# Altium integrated library Diodes - TVS.IntLib: 5379 symbols (part 44 of 122)
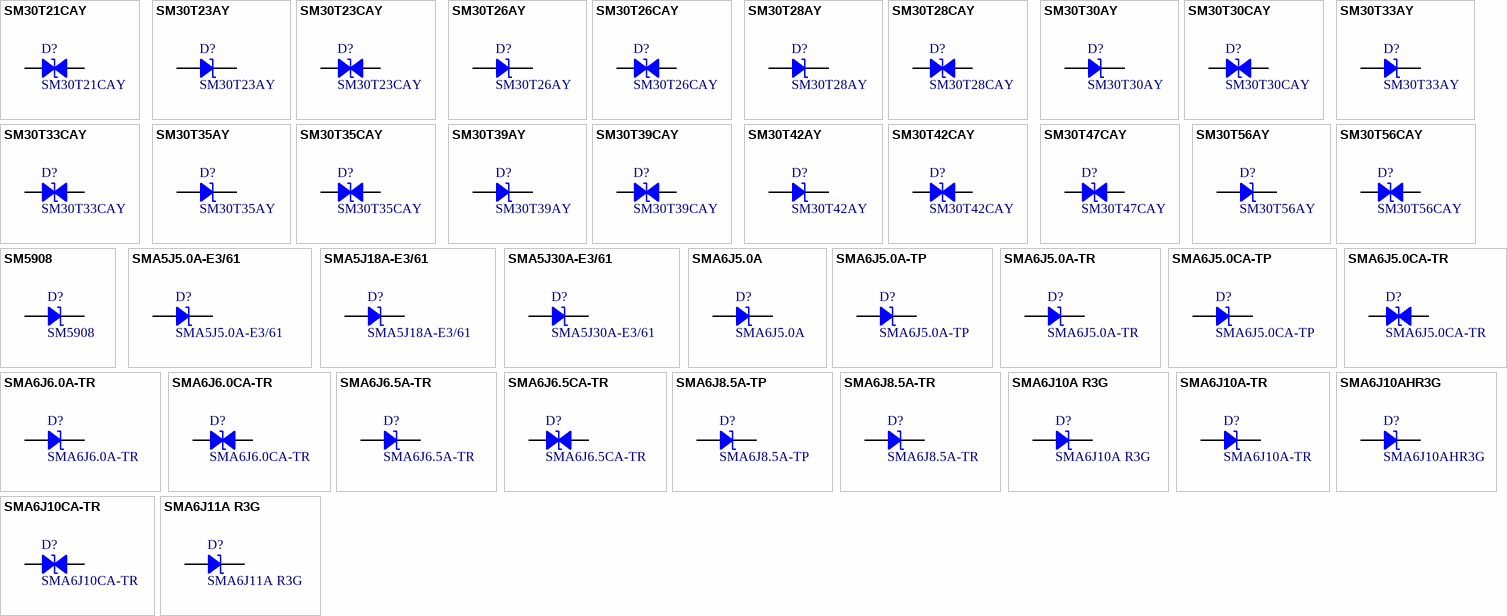
[diagram p177: symbols SM30T21CAY to SMA6J11A R3G]

## SM30T39AY
designator D?
TVS DIODE 33V 53.3V SMC; Manufacturer: STMicroelectronics; Current - Peak Pulse (10/1000µs): 56.3A; Power Line Protection: No; Power - Peak Pulse: 3000W (3kW); Type: Zener; Unidirectional Channels: 1; Voltage - Breakdown (Min): 36.7V; Part Number: SM30T39AY; Applications: Automotive; ComponentLink1Description: Datasheet; ComponentLink1URL: http://www.st.com/content/ccc/resource/technical/document/datasheet/90/0c/ab/be/9d/d1/49/bd/DM00035136.pdf/files/DM00035136.pdf/jcr:content/translations/en.DM00035136.pdf; ComponentLink2Description: DigiKey Link; ComponentLink2URL: http://digikey.com/product-detail/en/stmicroelectronics/SM30T39AY/497-12191-1-ND/2826664; LastUpdated: 9/2/2020 1:19:58 AM; Lifecycle Status: Active; Minimum Order: 1; Mounting Type: Surface Mount; Operating Temperature: -55°C ~ 175°C (TJ); Package / Case: DO-214AB, SMC; Packaging: TapeAndReel; PartId: 6228; Part Status: Active; Price: 0.85; Series: Automotive, AEC-Q101, SM30TY, TRANSIL™; Supplier 1: DigiKey; Supplier Part Number 1: 497-12191-1-ND; Supplier Device Package: SMC (DO-214AB); Voltage - Clamping (Max) @ Ipp: 53.3V; Voltage - Reverse Standoff (Typ): 33V
footprint DO214AB SMC
pins: 1, 2

## SM30T39CAY
designator D?
TVS DIODE 33V 53.3V SMC; Manufacturer: STMicroelectronics; Bidirectional Channels: 1; Current - Peak Pulse (10/1000µs): 56.3A; Power Line Protection: No; Power - Peak Pulse: 3000W (3kW); Type: Zener; Voltage - Breakdown (Min): 36.7V; Part Number: SM30T39CAY; Applications: Automotive; ComponentLink1Description: Datasheet; ComponentLink1URL: http://www.st.com/content/ccc/resource/technical/document/datasheet/90/0c/ab/be/9d/d1/49/bd/DM00035136.pdf/files/DM00035136.pdf/jcr:content/translations/en.DM00035136.pdf; ComponentLink2Description: DigiKey Link; ComponentLink2URL: http://digikey.com/product-detail/en/stmicroelectronics/SM30T39CAY/497-12192-1-ND/2826665; LastUpdated: 9/2/2020 1:28:08 AM; Lifecycle Status: Active; Minimum Order: 1; Mounting Type: Surface Mount; Operating Temperature: -55°C ~ 175°C (TJ); Package / Case: DO-214AB, SMC; Packaging: TapeAndReel; PartId: 8684; Part Status: Active; Price: 0.94; Series: Automotive, AEC-Q101, SM30TY, TRANSIL™; Supplier 1: DigiKey; Supplier Part Number 1: 497-12192-1-ND; Supplier Device Package: SMC (DO-214AB); Voltage - Clamping (Max) @ Ipp: 53.3V; Voltage - Reverse Standoff (Typ): 33V
footprint DO214AB SMC
pins: 1, 2

## SM30T42AY
designator D?
TVS DIODE 36V 58.1V SMC; Manufacturer: STMicroelectronics; Current - Peak Pulse (10/1000µs): 48.4A; Power Line Protection: No; Power - Peak Pulse: 3000W (3kW); Type: Zener; Unidirectional Channels: 1; Voltage - Breakdown (Min): 40V; Part Number: SM30T42AY; Applications: Automotive; ComponentLink1Description: Datasheet; ComponentLink1URL: http://www.st.com/content/ccc/resource/technical/document/datasheet/90/0c/ab/be/9d/d1/49/bd/DM00035136.pdf/files/DM00035136.pdf/jcr:content/translations/en.DM00035136.pdf; ComponentLink2Description: DigiKey Link; ComponentLink2URL: http://digikey.com/product-detail/en/stmicroelectronics/SM30T42AY/497-16291-1-ND/5848332; LastUpdated: 9/2/2020 1:20:05 AM; Lifecycle Status: Active; Minimum Order: 1; Mounting Type: Surface Mount; Operating Temperature: -55°C ~ 175°C (TJ); Package / Case: DO-214AB, SMC; Packaging: TapeAndReel; PartId: 6962; Part Status: Active; Price: 0.57; Series: Automotive, AEC-Q101, SM30TY, TRANSIL™; Supplier 1: DigiKey; Supplier Part Number 1: 497-16291-1-ND; Supplier Device Package: SMC (DO-214AB); Voltage - Clamping (Max) @ Ipp: 58.1V; Voltage - Reverse Standoff (Typ): 36V
footprint DO214AB SMC
pins: 1, 2

## SM30T42CAY
designator D?
TVS DIODE 36V 58.1V SMC; Manufacturer: STMicroelectronics; Bidirectional Channels: 1; Current - Peak Pulse (10/1000µs): 48.4A; Power Line Protection: No; Power - Peak Pulse: 3000W (3kW); Type: Zener; Voltage - Breakdown (Min): 40V; Part Number: SM30T42CAY; Applications: Automotive; ComponentLink1Description: Datasheet; ComponentLink1URL: http://www.st.com/content/ccc/resource/technical/document/datasheet/90/0c/ab/be/9d/d1/49/bd/DM00035136.pdf/files/DM00035136.pdf/jcr:content/translations/en.DM00035136.pdf; ComponentLink2Description: DigiKey Link; ComponentLink2URL: http://digikey.com/product-detail/en/stmicroelectronics/SM30T42CAY/497-16292-1-ND/5848333; LastUpdated: 9/2/2020 1:28:08 AM; Lifecycle Status: Active; Minimum Order: 1; Mounting Type: Surface Mount; Operating Temperature: -55°C ~ 175°C (TJ); Package / Case: DO-214AB, SMC; Packaging: TapeAndReel; PartId: 8686; Part Status: Active; Price: 0.69; Series: Automotive, AEC-Q101, SM30TY, TRANSIL™; Supplier 1: DigiKey; Supplier Part Number 1: 497-16292-1-ND; Supplier Device Package: SMC (DO-214AB); Voltage - Clamping (Max) @ Ipp: 58.1V; Voltage - Reverse Standoff (Typ): 36V
footprint DO214AB SMC
pins: 1, 2

## SM30T47CAY
designator D?
TVS DIODE 40V 64.5V DO214AB; Manufacturer: STMicroelectronics; Bidirectional Channels: 1; Current - Peak Pulse (10/1000µs): 43.5A; Power Line Protection: No; Power - Peak Pulse: 3000W (3kW); Type: Zener; Voltage - Breakdown (Min): 44.4V; Part Number: SM30T47CAY; Applications: Automotive; ComponentLink1Description: Datasheet; ComponentLink1URL: http://www.st.com/content/ccc/resource/technical/document/datasheet/90/0c/ab/be/9d/d1/49/bd/DM00035136.pdf/files/DM00035136.pdf/jcr:content/translations/en.DM00035136.pdf; ComponentLink2Description: DigiKey Link; ComponentLink2URL: http://digikey.com/product-detail/en/stmicroelectronics/SM30T47CAY/497-16294-1-ND/5848335; LastUpdated: 9/2/2020 1:28:07 AM; Lifecycle Status: Active; Minimum Order: 1; Mounting Type: Surface Mount; Operating Temperature: -55°C ~ 175°C (TJ); Package / Case: DO-214AB, SMC; Packaging: TapeAndReel; PartId: 8530; Part Status: Active; Price: 0.69; Series: Automotive, AEC-Q101, SM30TY, TRANSIL™; Supplier 1: DigiKey; Supplier Part Number 1: 497-16294-1-ND; Supplier Device Package: DO-214AB (SMC); Voltage - Clamping (Max) @ Ipp: 64.5V; Voltage - Reverse Standoff (Typ): 40V
footprint DO214AB SMC
pins: 1, 2

## SM30T56AY
designator D?
TVS DIODE 48V 76.6V DO214AB; Manufacturer: STMicroelectronics; Current - Peak Pulse (10/1000µs): 38A; Power Line Protection: No; Power - Peak Pulse: 3000W (3kW); Type: Zener; Unidirectional Channels: 1; Voltage - Breakdown (Min): 53.2V; Part Number: SM30T56AY; Applications: Automotive; ComponentLink1Description: Datasheet; ComponentLink1URL: http://www.st.com/content/ccc/resource/technical/document/datasheet/90/0c/ab/be/9d/d1/49/bd/DM00035136.pdf/files/DM00035136.pdf/jcr:content/translations/en.DM00035136.pdf; ComponentLink2Description: DigiKey Link; ComponentLink2URL: http://digikey.com/product-detail/en/stmicroelectronics/SM30T56AY/497-16295-1-ND/5848336; LastUpdated: 9/2/2020 1:20:05 AM; Lifecycle Status: Active; Minimum Order: 1; Mounting Type: Surface Mount; Operating Temperature: -55°C ~ 175°C (TJ); Package / Case: DO-214AB, SMC; Packaging: TapeAndReel; PartId: 6963; Part Status: Active; Price: 0.57; Series: Automotive, AEC-Q101, SM30TY, TRANSIL™; Supplier 1: DigiKey; Supplier Part Number 1: 497-16295-1-ND; Supplier Device Package: DO-214AB (SMC); Voltage - Clamping (Max) @ Ipp: 76.6V; Voltage - Reverse Standoff (Typ): 48V
footprint DO214AB SMC
pins: 1, 2

## SM30T56CAY
designator D?
TVS DIODE 48V 76.6V SMC; Manufacturer: STMicroelectronics; Bidirectional Channels: 1; Current - Peak Pulse (10/1000µs): 38A; Power Line Protection: No; Power - Peak Pulse: 3000W (3kW); Type: Zener; Voltage - Breakdown (Min): 53.2V; Part Number: SM30T56CAY; Applications: Automotive; ComponentLink1Description: Datasheet; ComponentLink1URL: http://www.st.com/content/ccc/resource/technical/document/datasheet/90/0c/ab/be/9d/d1/49/bd/DM00035136.pdf/files/DM00035136.pdf/jcr:content/translations/en.DM00035136.pdf; ComponentLink2Description: DigiKey Link; ComponentLink2URL: http://digikey.com/product-detail/en/stmicroelectronics/SM30T56CAY/497-16296-1-ND/5848337; LastUpdated: 9/2/2020 1:28:08 AM; Lifecycle Status: Active; Minimum Order: 1; Mounting Type: Surface Mount; Operating Temperature: -55°C ~ 175°C (TJ); Package / Case: DO-214AB, SMC; Packaging: TapeAndReel; PartId: 8674; Part Status: Active; Price: 0.69; Series: Automotive, AEC-Q101, SM30TY, TRANSIL™; Supplier 1: DigiKey; Supplier Part Number 1: 497-16296-1-ND; Supplier Device Package: SMC (DO-214AB); Voltage - Clamping (Max) @ Ipp: 76.6V; Voltage - Reverse Standoff (Typ): 48V
footprint DO214AB SMC
pins: 1, 2

## SM5908
designator D?
TVS DIODE 5V 8.5V SMC; Manufacturer: STMicroelectronics; Current - Peak Pulse (10/1000µs): 120A (8/20µs); Power Line Protection: No; Power - Peak Pulse: 1500W (1.5kW); Type: Zener; Unidirectional Channels: 1; Voltage - Breakdown (Min): 6V; Part Number: SM5908; Applications: General Purpose; ComponentLink1Description: Datasheet; ComponentLink1URL: http://www.st.com/content/ccc/resource/technical/document/datasheet/bb/52/cd/6d/95/90/44/8d/CD00000664.pdf/files/CD00000664.pdf/jcr:content/translations/en.CD00000664.pdf; ComponentLink2Description: DigiKey Link; ComponentLink2URL: http://digikey.com/product-detail/en/stmicroelectronics/SM5908/497-6489-1-ND/1865470; LastUpdated: 9/2/2020 1:20:06 AM; Lifecycle Status: Active; Minimum Order: 1; Mounting Type: Surface Mount; Operating Temperature: -55°C ~ 175°C (TJ); Package / Case: DO-214AB, SMC; Packaging: TapeAndReel; PartId: 6985; Part Status: Active; Price: 0.49; Series: TRANSIL™; Supplier 1: DigiKey; Supplier Part Number 1: 497-6489-1-ND; Supplier Device Package: SMC; Voltage - Clamping (Max) @ Ipp: 8.5V; Voltage - Reverse Standoff (Typ): 5V
footprint DO214AB SMC
pins: 1, 2

## SMA5J5.0A-E3/61
designator D?
TVS DIODE 5V 9.2V DO214AC; Manufacturer: Vishay Semiconductor Diodes Division; Current - Peak Pulse (10/1000µs): 54.3A; Power Line Protection: No; Power - Peak Pulse: 500W; Type: Zener; Unidirectional Channels: 1; Voltage - Breakdown (Min): 6.4V; Part Number: SMA5J5.0A-E3/61; Applications: General Purpose; ComponentLink1Description: Datasheet; ComponentLink1URL: http://www.vishay.com/docs/88875/sma5j5a.pdf; ComponentLink2Description: DigiKey Link; ComponentLink2URL: http://digikey.com/product-detail/en/vishay-semiconductor-diodes-division/SMA5J5.0A-E3-61/SMA5J5.0A-E3-61GICT-ND/9600961; LastUpdated: 9/2/2020 1:20:14 AM; Lifecycle Status: Active; Minimum Order: 1; Mounting Type: Surface Mount; Operating Temperature: -55°C ~ 150°C (TJ); Package / Case: DO-214AC, SMA; Packaging: TapeAndReel; PartId: 5702; Part Status: Active; Price: 0.13; Series: TransZorb®; Supplier 1: DigiKey; Supplier Part Number 1: SMA5J5.0A-E3/61GICT-ND; Supplier Device Package: DO-214AC (SMA); Voltage - Clamping (Max) @ Ipp: 9.2V; Voltage - Reverse Standoff (Typ): 5V
footprint DO214AC SMA
pins: 1, 2

## SMA5J18A-E3/61
designator D?
TVS DIODE 18V 29.2V DO214AC; Manufacturer: Vishay Semiconductor Diodes Division; Current - Peak Pulse (10/1000µs): 17.1A; Power Line Protection: No; Power - Peak Pulse: 500W; Type: Zener; Unidirectional Channels: 1; Voltage - Breakdown (Min): 20V; Part Number: SMA5J18A-E3/61; Applications: General Purpose; ComponentLink1Description: Datasheet; ComponentLink1URL: http://www.vishay.com/docs/88875/sma5j5a.pdf; ComponentLink2Description: DigiKey Link; ComponentLink2URL: http://digikey.com/product-detail/en/vishay-semiconductor-diodes-division/SMA5J18A-E3-61/SMA5J18A-E3-61GICT-ND/9600959; LastUpdated: 9/2/2020 1:20:14 AM; Lifecycle Status: Active; Minimum Order: 1; Mounting Type: Surface Mount; Operating Temperature: -55°C ~ 150°C (TJ); Package / Case: DO-214AC, SMA; Packaging: TapeAndReel; PartId: 5704; Part Status: Active; Price: 0.13; Series: TransZorb®; Supplier 1: DigiKey; Supplier Part Number 1: SMA5J18A-E3/61GICT-ND; Supplier Device Package: DO-214AC (SMA); Voltage - Clamping (Max) @ Ipp: 29.2V; Voltage - Reverse Standoff (Typ): 18V
footprint DO214AC SMA
pins: 1, 2

## SMA5J30A-E3/61
designator D?
TVS DIODE 30V 48.4V DO214AC; Manufacturer: Vishay Semiconductor Diodes Division; Current - Peak Pulse (10/1000µs): 10.3A; Power Line Protection: No; Power - Peak Pulse: 500W; Type: Zener; Unidirectional Channels: 1; Voltage - Breakdown (Min): 33.3V; Part Number: SMA5J30A-E3/61; Applications: General Purpose; ComponentLink1Description: Datasheet; ComponentLink1URL: http://www.vishay.com/docs/88875/sma5j5a.pdf; ComponentLink2Description: DigiKey Link; ComponentLink2URL: http://digikey.com/product-detail/en/vishay-semiconductor-diodes-division/SMA5J30A-E3-61/SMA5J30A-E3-61GICT-ND/9600960; LastUpdated: 9/2/2020 1:20:14 AM; Lifecycle Status: Active; Minimum Order: 1; Mounting Type: Surface Mount; Operating Temperature: -55°C ~ 150°C (TJ); Package / Case: DO-214AC, SMA; Packaging: TapeAndReel; PartId: 5703; Part Status: Active; Price: 0.13; Series: TransZorb®; Supplier 1: DigiKey; Supplier Part Number 1: SMA5J30A-E3/61GICT-ND; Supplier Device Package: DO-214AC (SMA); Voltage - Clamping (Max) @ Ipp: 48.4V; Voltage - Reverse Standoff (Typ): 30V
footprint DO214AC SMA
pins: 1, 2

## SMA6J5.0A
designator D?
TVS DIODE 5V 9.2V DO214AC; Manufacturer: Littelfuse Inc.; Current - Peak Pulse (10/1000µs): 65.3A; Power Line Protection: No; Power - Peak Pulse: 600W; Type: Zener; Unidirectional Channels: 1; Voltage - Breakdown (Min): 6.4V; Part Number: SMA6J5.0A; Applications: General Purpose; ComponentLink1Description: Datasheet; ComponentLink1URL: https://www.littelfuse.com/~/media/electronics/datasheets/tvs_diodes/littelfuse_tvs_diode_sma6j_datasheet.pdf.pdf; ComponentLink2Description: DigiKey Link; ComponentLink2URL: http://digikey.com/product-detail/en/littelfuse-inc/SMA6J5.0A/F11484CT-ND/9326787; LastUpdated: 9/2/2020 1:20:18 AM; Lifecycle Status: Active; Minimum Order: 1; Mounting Type: Surface Mount; Operating Temperature: -55°C ~ 150°C (TJ); Package / Case: DO-214AC, SMA; Packaging: TapeAndReel; PartId: 6139; Part Status: Active; Price: 0.13; Series: SMA6J; Supplier 1: DigiKey; Supplier Part Number 1: F11484CT-ND; Supplier Device Package: DO-214AC (SMA); Voltage - Clamping (Max) @ Ipp: 9.2V; Voltage - Reverse Standoff (Typ): 5V
footprint DO214AC SMA
pins: 1, 2

## SMA6J5.0A-TP
designator D?
TVS DIODE UNIDIR 600W 5V SMA; Manufacturer: Micro Commercial Co; Current - Peak Pulse (10/1000µs): 65.2A; Power Line Protection: No; Type: Zener; Unidirectional Channels: 1; Voltage - Breakdown (Min): 6.4V; Voltage - Clamping (Max) @ Ipp: 9.2V; Part Number: SMA6J5.0A-TP; Applications: General Purpose; ComponentLink1Description: Datasheet; ComponentLink1URL: https://www.mccsemi.com/pdf/Products/SMA6J5.0A-SMA6J40CA(SMA)-I.pdf; ComponentLink2Description: DigiKey Link; ComponentLink2URL: http://digikey.com/product-detail/en/micro-commercial-co/SMA6J5.0A-TP/SMA6J5.0A-TPMSCT-ND/10054455; LastUpdated: 9/2/2020 1:20:17 AM; Lifecycle Status: Active; Minimum Order: 1; Mounting Type: Surface Mount; Operating Temperature: -55°C ~ 175°C; Package / Case: DO-214AC, SMA; Packaging: TapeAndReel; PartId: 6075; Part Status: Active; Power - Peak Pulse: 600W; Price: 0.11; Series: -; Supplier 1: DigiKey; Supplier Part Number 1: SMA6J5.0A-TPMSCT-ND; Supplier Device Package: DO-214AC (SMA); Voltage - Reverse Standoff (Typ): 5V
footprint DO214AC SMA
pins: 1, 2

## SMA6J5.0A-TR
designator D?
TVS DIODE 5V 13.4V SMA; Manufacturer: STMicroelectronics; Current - Peak Pulse (10/1000µs): 298A (8/20µs); Power Line Protection: No; Power - Peak Pulse: 600W; Type: Zener; Unidirectional Channels: 1; Voltage - Breakdown (Min): 6.4V; Part Number: SMA6J5.0A-TR; Applications: General Purpose; ComponentLink1Description: Datasheet; ComponentLink1URL: http://www.st.com/content/ccc/resource/technical/document/datasheet/56/26/d7/6f/22/8c/4e/b3/CD00152688.pdf/files/CD00152688.pdf/_jcr_content/translations/en.CD00152688.pdf; ComponentLink2Description: DigiKey Link; ComponentLink2URL: http://digikey.com/product-detail/en/stmicroelectronics/SMA6J5.0A-TR/497-5938-1-ND/1578444; LastUpdated: 9/2/2020 1:20:18 AM; Lifecycle Status: Active; Minimum Order: 1; Mounting Type: Surface Mount; Operating Temperature: -55°C ~ 175°C (TJ); Package / Case: DO-214AC, SMA; Packaging: TapeAndReel; PartId: 6208; Part Status: Active; Price: 0.08; Series: SMA6J, TRANSIL™; Supplier 1: DigiKey; Supplier Part Number 1: 497-5938-1-ND; Supplier Device Package: SMA (DO-214AC); Voltage - Clamping (Max) @ Ipp: 13.4V; Voltage - Reverse Standoff (Typ): 5V
footprint DO214AC SMA
pins: 1, 2

## SMA6J5.0CA-TP
designator D?
600WTVSSMA; Manufacturer: Micro Commercial Co; Current - Peak Pulse (10/1000µs): 65.2A; Power Line Protection: No; Power - Peak Pulse: 600W; Type: Zener; Unidirectional Channels: 1; Voltage - Breakdown (Min): 6.4V; Voltage - Clamping (Max) @ Ipp: 9.2V; Voltage - Reverse Standoff (Typ): 5V; Part Number: SMA6J5.0CA-TP; Applications: General Purpose; ComponentLink1Description: Datasheet; ComponentLink1URL: https://www.mccsemi.com/pdf/Products/SMA6J5.0A-SMA6J40CA(SMA)-I.pdf; ComponentLink2Description: DigiKey Link; ComponentLink2URL: http://digikey.com/product-detail/en/micro-commercial-co/SMA6J5.0CA-TP/SMA6J5.0CA-TPMSCT-ND/10054417; LastUpdated: 9/2/2020 1:20:18 AM; Lifecycle Status: Active; Minimum Order: 1; Mounting Type: Surface Mount; Operating Temperature: -55°C ~ 175°C (TJ); Package / Case: DO-214AC, SMA; Packaging: CutTape; PartId: 6165; Part Status: Active; Price: 0.41; Series: -; Supplier 1: DigiKey; Supplier Part Number 1: SMA6J5.0CA-TPMSCT-ND; Supplier Device Package: DO-214AC (SMA)
footprint DO214AC SMA
pins: 1, 2

## SMA6J5.0CA-TR
designator D?
TVS DIODE 5V 13.4V SMA; Manufacturer: STMicroelectronics; Bidirectional Channels: 1; Current - Peak Pulse (10/1000µs): 298A (8/20µs); Power Line Protection: No; Power - Peak Pulse: 600W; Type: Zener; Voltage - Breakdown (Min): 6.4V; Part Number: SMA6J5.0CA-TR; Applications: General Purpose; ComponentLink1Description: Datasheet; ComponentLink1URL: http://www.st.com/content/ccc/resource/technical/document/datasheet/56/26/d7/6f/22/8c/4e/b3/CD00152688.pdf/files/CD00152688.pdf/_jcr_content/translations/en.CD00152688.pdf; ComponentLink2Description: DigiKey Link; ComponentLink2URL: http://digikey.com/product-detail/en/stmicroelectronics/SMA6J5.0CA-TR/497-5939-1-ND/1578445; LastUpdated: 9/2/2020 1:27:54 AM; Lifecycle Status: Active; Minimum Order: 1; Mounting Type: Surface Mount; Operating Temperature: -55°C ~ 175°C (TJ); Package / Case: DO-214AC, SMA; Packaging: TapeAndReel; PartId: 7759; Part Status: Active; Price: 0.17; Series: SMA6J, TRANSIL™; Supplier 1: DigiKey; Supplier Part Number 1: 497-5939-1-ND; Supplier Device Package: SMA (DO-214AC); Voltage - Clamping (Max) @ Ipp: 13.4V; Voltage - Reverse Standoff (Typ): 5V
footprint DO214AC SMA
pins: 1, 2

## SMA6J6.0A-TR
designator D?
TVS DIODE 6V 13.7V SMA; Manufacturer: STMicroelectronics; Current - Peak Pulse (10/1000µs): 290A (8/20µs); Power Line Protection: No; Power - Peak Pulse: 600W; Type: Zener; Unidirectional Channels: 1; Voltage - Breakdown (Min): 6.7V; Part Number: SMA6J6.0A-TR; Applications: General Purpose; ComponentLink1Description: Datasheet; ComponentLink1URL: http://www.st.com/content/ccc/resource/technical/document/datasheet/56/26/d7/6f/22/8c/4e/b3/CD00152688.pdf/files/CD00152688.pdf/_jcr_content/translations/en.CD00152688.pdf; ComponentLink2Description: DigiKey Link; ComponentLink2URL: http://digikey.com/product-detail/en/stmicroelectronics/SMA6J6.0A-TR/497-5942-1-ND/1578448; LastUpdated: 9/2/2020 1:20:16 AM; Lifecycle Status: Active; Minimum Order: 1; Mounting Type: Surface Mount; Operating Temperature: -55°C ~ 175°C (TJ); Package / Case: DO-214AC, SMA; Packaging: TapeAndReel; PartId: 5901; Part Status: Active; Price: 0.10; Series: SMA6J, TRANSIL™; Supplier 1: DigiKey; Supplier Part Number 1: 497-5942-1-ND; Supplier Device Package: SMA (DO-214AC); Voltage - Clamping (Max) @ Ipp: 13.7V; Voltage - Reverse Standoff (Typ): 6V
footprint DO214AC SMA
pins: 1, 2

## SMA6J6.0CA-TR
designator D?
TVS DIODE 6V 13.7V SMA; Manufacturer: STMicroelectronics; Bidirectional Channels: 1; Current - Peak Pulse (10/1000µs): 290A (8/20µs); Power Line Protection: No; Power - Peak Pulse: 600W; Type: Zener; Voltage - Breakdown (Min): 6.7V; Part Number: SMA6J6.0CA-TR; Applications: General Purpose; ComponentLink1Description: Datasheet; ComponentLink1URL: http://www.st.com/content/ccc/resource/technical/document/datasheet/56/26/d7/6f/22/8c/4e/b3/CD00152688.pdf/files/CD00152688.pdf/_jcr_content/translations/en.CD00152688.pdf; ComponentLink2Description: DigiKey Link; ComponentLink2URL: http://digikey.com/product-detail/en/stmicroelectronics/SMA6J6.0CA-TR/497-5943-1-ND/1578449; LastUpdated: 9/2/2020 1:27:51 AM; Lifecycle Status: Active; Minimum Order: 1; Mounting Type: Surface Mount; Operating Temperature: -55°C ~ 175°C (TJ); Package / Case: DO-214AC, SMA; Packaging: TapeAndReel; PartId: 7389; Part Status: Active; Price: 0.17; Series: SMA6J, TRANSIL™; Supplier 1: DigiKey; Supplier Part Number 1: 497-5943-1-ND; Supplier Device Package: SMA (DO-214AC); Voltage - Clamping (Max) @ Ipp: 13.7V; Voltage - Reverse Standoff (Typ): 6V
footprint DO214AC SMA
pins: 1, 2

## SMA6J6.5A-TR
designator D?
TVS DIODE 6.5V 14.5V SMA; Manufacturer: STMicroelectronics; Current - Peak Pulse (10/1000µs): 276A (8/20µs); Power Line Protection: No; Power - Peak Pulse: 600W; Type: Zener; Unidirectional Channels: 1; Voltage - Breakdown (Min): 7.2V; Part Number: SMA6J6.5A-TR; Applications: General Purpose; ComponentLink1Description: Datasheet; ComponentLink1URL: http://www.st.com/content/ccc/resource/technical/document/datasheet/56/26/d7/6f/22/8c/4e/b3/CD00152688.pdf/files/CD00152688.pdf/_jcr_content/translations/en.CD00152688.pdf; ComponentLink2Description: DigiKey Link; ComponentLink2URL: http://digikey.com/product-detail/en/stmicroelectronics/SMA6J6.5A-TR/497-5944-1-ND/1578450; LastUpdated: 9/2/2020 1:20:14 AM; Lifecycle Status: Active; Minimum Order: 1; Mounting Type: Surface Mount; Operating Temperature: -55°C ~ 175°C (TJ); Package / Case: DO-214AC, SMA; Packaging: TapeAndReel; PartId: 5690; Part Status: Active; Price: 0.16; Series: SMA6J, TRANSIL™; Supplier 1: DigiKey; Supplier Part Number 1: 497-5944-1-ND; Supplier Device Package: SMA (DO-214AC); Voltage - Clamping (Max) @ Ipp: 14.5V; Voltage - Reverse Standoff (Typ): 6.5V
footprint DO214AC SMA
pins: 1, 2

## SMA6J6.5CA-TR
designator D?
TVS DIODE 6.5V 14.5V SMA; Manufacturer: STMicroelectronics; Bidirectional Channels: 1; Current - Peak Pulse (10/1000µs): 276A (8/20µs); Power Line Protection: No; Power - Peak Pulse: 600W; Type: Zener; Voltage - Breakdown (Min): 7.2V; Part Number: SMA6J6.5CA-TR; Applications: General Purpose; ComponentLink1Description: Datasheet; ComponentLink1URL: http://www.st.com/content/ccc/resource/technical/document/datasheet/56/26/d7/6f/22/8c/4e/b3/CD00152688.pdf/files/CD00152688.pdf/_jcr_content/translations/en.CD00152688.pdf; ComponentLink2Description: DigiKey Link; ComponentLink2URL: http://digikey.com/product-detail/en/stmicroelectronics/SMA6J6.5CA-TR/497-5945-1-ND/1578451; LastUpdated: 9/2/2020 1:27:51 AM; Lifecycle Status: Active; Minimum Order: 1; Mounting Type: Surface Mount; Operating Temperature: -55°C ~ 175°C (TJ); Package / Case: DO-214AC, SMA; Packaging: TapeAndReel; PartId: 7393; Part Status: Active; Price: 0.17; Series: SMA6J, TRANSIL™; Supplier 1: DigiKey; Supplier Part Number 1: 497-5945-1-ND; Supplier Device Package: SMA (DO-214AC); Voltage - Clamping (Max) @ Ipp: 14.5V; Voltage - Reverse Standoff (Typ): 6.5V
footprint DO214AC SMA
pins: 1, 2

## SMA6J8.5A-TP
designator D?
8.5V, 600W, UNIDIRECTIONAL TVS,; Manufacturer: Micro Commercial Co; Current - Peak Pulse (10/1000µs): 41.7A; Power Line Protection: No; Type: Zener; Unidirectional Channels: 1; Voltage - Breakdown (Min): 9.44V; Voltage - Clamping (Max) @ Ipp: 14.4V; Part Number: SMA6J8.5A-TP; Applications: General Purpose; ComponentLink1Description: Datasheet; ComponentLink1URL: https://www.mccsemi.com/pdf/Products/SMA6J5.0A-SMA6J40CA(SMA)-I.pdf; ComponentLink2Description: DigiKey Link; ComponentLink2URL: http://digikey.com/product-detail/en/micro-commercial-co/SMA6J8.5A-TP/SMA6J8.5A-TPMSCT-ND/8554561; LastUpdated: 9/2/2020 1:20:16 AM; Lifecycle Status: Active; Minimum Order: 1; Mounting Type: Surface Mount; Operating Temperature: -55°C ~ 175°C (TA); Package / Case: DO-214AC, SMA; Packaging: TapeAndReel; PartId: 5894; Part Status: Active; Power - Peak Pulse: 600W; Price: 0.10; Series: -; Supplier 1: DigiKey; Supplier Part Number 1: SMA6J8.5A-TPMSCT-ND; Supplier Device Package: DO-214AC (SMA); Voltage - Reverse Standoff (Typ): 8.5V
footprint DO214AC SMA
pins: 1, 2

## SMA6J8.5A-TR
designator D?
TVS DIODE 8.5V 18.7V SMA; Manufacturer: STMicroelectronics; Current - Peak Pulse (10/1000µs): 205A (8/20µs); Power Line Protection: No; Power - Peak Pulse: 600W; Type: Zener; Unidirectional Channels: 1; Voltage - Breakdown (Min): 9.4V; Part Number: SMA6J8.5A-TR; Applications: General Purpose; ComponentLink1Description: Datasheet; ComponentLink1URL: http://www.st.com/content/ccc/resource/technical/document/datasheet/56/26/d7/6f/22/8c/4e/b3/CD00152688.pdf/files/CD00152688.pdf/_jcr_content/translations/en.CD00152688.pdf; ComponentLink2Description: DigiKey Link; ComponentLink2URL: http://digikey.com/product-detail/en/stmicroelectronics/SMA6J8.5A-TR/497-5948-1-ND/1578454; LastUpdated: 9/2/2020 1:20:14 AM; Lifecycle Status: Active; Minimum Order: 1; Mounting Type: Surface Mount; Operating Temperature: -55°C ~ 175°C (TJ); Package / Case: DO-214AC, SMA; Packaging: TapeAndReel; PartId: 5686; Part Status: Active; Price: 0.16; Series: SMA6J, TRANSIL™; Supplier 1: DigiKey; Supplier Part Number 1: 497-5948-1-ND; Supplier Device Package: SMA (DO-214AC); Voltage - Clamping (Max) @ Ipp: 18.7V; Voltage - Reverse Standoff (Typ): 8.5V
footprint DO214AC SMA
pins: 1, 2

## SMA6J10A R3G
designator D?
TVS DIODE 10V 15.7V DO214AC; Manufacturer: Taiwan Semiconductor Corporation; Current - Peak Pulse (10/1000µs): 38.2A; Power Line Protection: No; Power - Peak Pulse: 600W; Type: Zener; Unidirectional Channels: 1; Voltage - Breakdown (Min): 11.1V; Part Number: SMA6J10A R3G; Applications: General Purpose; ComponentLink1Description: Datasheet; ComponentLink1URL: https://www.taiwansemi.com/products/datasheet/SMA6J%20SERIES_D15.pdf; ComponentLink2Description: DigiKey Link; ComponentLink2URL: http://digikey.com/product-detail/en/taiwan-semiconductor-corporation/SMA6J10A-R3G/SMA6J10AR3GCT-ND/7358697; LastUpdated: 9/2/2020 1:20:13 AM; Lifecycle Status: Active; Minimum Order: 1; Mounting Type: Surface Mount; Operating Temperature: -55°C ~ 175°C (TJ); Package / Case: DO-214AC, SMA; Packaging: TapeAndReel; PartId: 5583; Part Status: Active; Price: 0.12; Series: SMA6J; Supplier 1: DigiKey; Supplier Part Number 1: SMA6J10AR3GCT-ND; Supplier Device Package: DO-214AC (SMA); Voltage - Clamping (Max) @ Ipp: 15.7V; Voltage - Reverse Standoff (Typ): 10V
footprint DO214AC SMA
pins: 1, 2

## SMA6J10A-TR
designator D?
TVS DIODE 10V 19.6V SMA; Manufacturer: STMicroelectronics; Current - Peak Pulse (10/1000µs): 184A (8/20µs); Power Line Protection: No; Power - Peak Pulse: 600W; Type: Zener; Unidirectional Channels: 1; Voltage - Breakdown (Min): 11.1V; Part Number: SMA6J10A-TR; Applications: General Purpose; ComponentLink1Description: Datasheet; ComponentLink1URL: http://www.st.com/content/ccc/resource/technical/document/datasheet/56/26/d7/6f/22/8c/4e/b3/CD00152688.pdf/files/CD00152688.pdf/_jcr_content/translations/en.CD00152688.pdf; ComponentLink2Description: DigiKey Link; ComponentLink2URL: http://digikey.com/product-detail/en/stmicroelectronics/SMA6J10A-TR/497-5915-1-ND/1578421; LastUpdated: 9/2/2020 1:20:14 AM; Lifecycle Status: Active; Minimum Order: 1; Mounting Type: Surface Mount; Operating Temperature: -55°C ~ 175°C (TJ); Package / Case: DO-214AC, SMA; Packaging: TapeAndReel; PartId: 5687; Part Status: Active; Price: 0.16; Series: SMA6J, TRANSIL™; Supplier 1: DigiKey; Supplier Part Number 1: 497-5915-1-ND; Supplier Device Package: SMA (DO-214AC); Voltage - Clamping (Max) @ Ipp: 19.6V; Voltage - Reverse Standoff (Typ): 10V
footprint DO214AC SMA
pins: 1, 2

## SMA6J10AHR3G
designator D?
TVS DIODE 10V 15.7V DO214AC; Manufacturer: Taiwan Semiconductor Corporation; Current - Peak Pulse (10/1000µs): 38.2A; Power Line Protection: No; Power - Peak Pulse: 600W; Type: Zener; Unidirectional Channels: 1; Voltage - Breakdown (Min): 11.1V; Part Number: SMA6J10AHR3G; Applications: Automotive; ComponentLink1Description: Datasheet; ComponentLink1URL: https://www.taiwansemi.com/products/datasheet/SMA6J%20SERIES_D15.pdf; ComponentLink2Description: DigiKey Link; ComponentLink2URL: http://digikey.com/product-detail/en/taiwan-semiconductor-corporation/SMA6J10AHR3G/SMA6J10AHR3GCT-ND/7358700; LastUpdated: 9/2/2020 1:20:14 AM; Lifecycle Status: Active; Minimum Order: 1; Mounting Type: Surface Mount; Operating Temperature: -55°C ~ 175°C (TJ); Package / Case: DO-214AC, SMA; Packaging: TapeAndReel; PartId: 5668; Part Status: Active; Price: 0.13; Series: Automotive, AEC-Q101, SMA6J; Supplier 1: DigiKey; Supplier Part Number 1: SMA6J10AHR3GCT-ND; Supplier Device Package: DO-214AC (SMA); Voltage - Clamping (Max) @ Ipp: 15.7V; Voltage - Reverse Standoff (Typ): 10V
footprint DO214AC SMA
pins: 1, 2

## SMA6J10CA-TR
designator D?
TVS DIODE 10V 19.6V SMA; Manufacturer: STMicroelectronics; Bidirectional Channels: 1; Current - Peak Pulse (10/1000µs): 184A (8/20µs); Power Line Protection: No; Power - Peak Pulse: 600W; Type: Zener; Voltage - Breakdown (Min): 11.1V; Part Number: SMA6J10CA-TR; Applications: General Purpose; ComponentLink1Description: Datasheet; ComponentLink1URL: http://www.st.com/content/ccc/resource/technical/document/datasheet/56/26/d7/6f/22/8c/4e/b3/CD00152688.pdf/files/CD00152688.pdf/jcr:content/translations/en.CD00152688.pdf; ComponentLink2Description: DigiKey Link; ComponentLink2URL: http://digikey.com/product-detail/en/stmicroelectronics/SMA6J10CA-TR/497-5916-1-ND/1578422; LastUpdated: 9/2/2020 1:27:51 AM; Lifecycle Status: Active; Minimum Order: 1; Mounting Type: Surface Mount; Operating Temperature: -55°C ~ 175°C (TJ); Package / Case: DO-214AC, SMA; Packaging: TapeAndReel; PartId: 7391; Part Status: Active; Price: 0.17; Series: SMA6J, TRANSIL™; Supplier 1: DigiKey; Supplier Part Number 1: 497-5916-1-ND; Supplier Device Package: SMA (DO-214AC); Voltage - Clamping (Max) @ Ipp: 19.6V; Voltage - Reverse Standoff (Typ): 10V
footprint DO214AC SMA
pins: 1, 2

## SMA6J11A R3G
designator D?
TVS DIODE 11V 17.2V DO214AC; Manufacturer: Taiwan Semiconductor Corporation; Current - Peak Pulse (10/1000µs): 24.8A; Power Line Protection: No; Power - Peak Pulse: 600W; Type: Zener; Unidirectional Channels: 1; Voltage - Breakdown (Min): 12.2V; Part Number: SMA6J11A R3G; Applications: General Purpose; ComponentLink1Description: Datasheet; ComponentLink1URL: https://www.taiwansemi.com/products/datasheet/SMA6J%20SERIES_D15.pdf; ComponentLink2Description: DigiKey Link; ComponentLink2URL: http://digikey.com/product-detail/en/taiwan-semiconductor-corporation/SMA6J11A-R3G/SMA6J11AR3GCT-ND/7358703; LastUpdated: 9/2/2020 1:20:13 AM; Lifecycle Status: Active; Minimum Order: 1; Mounting Type: Surface Mount; Operating Temperature: -55°C ~ 175°C (TJ); Package / Case: DO-214AC, SMA; Packaging: TapeAndReel; PartId: 5582; Part Status: Active; Price: 0.12; Series: SMA6J; Supplier 1: DigiKey; Supplier Part Number 1: SMA6J11AR3GCT-ND; Supplier Device Package: DO-214AC (SMA); Voltage - Clamping (Max) @ Ipp: 17.2V; Voltage - Reverse Standoff (Typ): 11V
footprint DO214AC SMA
pins: 1, 2

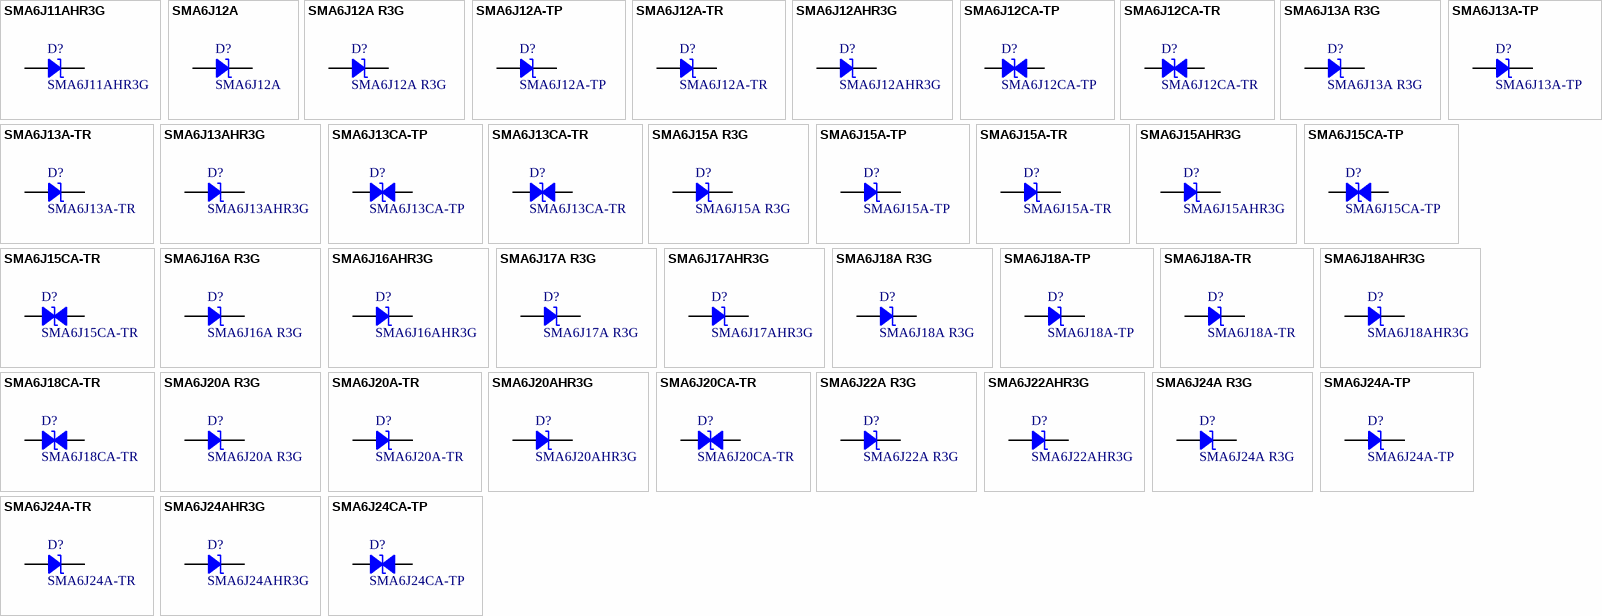
[diagram p48: symbols SMA6J11AHR3G to SMA6J24CA-TP]

## SMA6J11AHR3G
designator D?
TVS DIODE 11V 17.2V DO214AC; Manufacturer: Taiwan Semiconductor Corporation; Current - Peak Pulse (10/1000µs): 24.8A; Power Line Protection: No; Power - Peak Pulse: 600W; Type: Zener; Unidirectional Channels: 1; Voltage - Breakdown (Min): 12.2V; Part Number: SMA6J11AHR3G; Applications: Automotive; ComponentLink1Description: Datasheet; ComponentLink1URL: https://www.taiwansemi.com/products/datasheet/SMA6J%20SERIES_D15.pdf; ComponentLink2Description: DigiKey Link; ComponentLink2URL: http://digikey.com/product-detail/en/taiwan-semiconductor-corporation/SMA6J11AHR3G/SMA6J11AHR3GCT-ND/7358706; LastUpdated: 9/2/2020 1:20:15 AM; Lifecycle Status: Active; Minimum Order: 1; Mounting Type: Surface Mount; Operating Temperature: -55°C ~ 175°C (TJ); Package / Case: DO-214AC, SMA; Packaging: TapeAndReel; PartId: 5849; Part Status: Active; Price: 0.13; Series: Automotive, AEC-Q101, SMA6J; Supplier 1: DigiKey; Supplier Part Number 1: SMA6J11AHR3GCT-ND; Supplier Device Package: DO-214AC (SMA); Voltage - Clamping (Max) @ Ipp: 17.2V; Voltage - Reverse Standoff (Typ): 11V
footprint DO214AC SMA
pins: 1, 2

## SMA6J12A
designator D?
TVS DIODE 12V 19.9V DO214AC; Manufacturer: Littelfuse Inc.; Current - Peak Pulse (10/1000µs): 30.2A; Power Line Protection: No; Power - Peak Pulse: 600W; Type: Zener; Unidirectional Channels: 1; Voltage - Breakdown (Min): 13.3V; Part Number: SMA6J12A; Applications: General Purpose; ComponentLink1Description: Datasheet; ComponentLink1URL: https://www.littelfuse.com/~/media/electronics/datasheets/tvs_diodes/littelfuse_tvs_diode_sma6j_datasheet.pdf.pdf; ComponentLink2Description: DigiKey Link; ComponentLink2URL: http://digikey.com/product-detail/en/littelfuse-inc/SMA6J12A/SMA6J12ACT-ND/4279585; LastUpdated: 9/2/2020 1:20:18 AM; Lifecycle Status: Active; Minimum Order: 1; Mounting Type: Surface Mount; Operating Temperature: -55°C ~ 150°C (TJ); Package / Case: DO-214AC, SMA; Packaging: TapeAndReel; PartId: 6211; Part Status: Active; Price: 0.10; Series: SMA6J; Supplier 1: DigiKey; Supplier Part Number 1: SMA6J12ACT-ND; Supplier Device Package: DO-214AC (SMA); Voltage - Clamping (Max) @ Ipp: 19.9V; Voltage - Reverse Standoff (Typ): 12V
footprint DO214AC SMA
pins: 1, 2

## SMA6J12A R3G
designator D?
TVS DIODE 12V 18.8V DO214AC; Manufacturer: Taiwan Semiconductor Corporation; Current - Peak Pulse (10/1000µs): 31.9A; Power Line Protection: No; Power - Peak Pulse: 600W; Type: Zener; Unidirectional Channels: 1; Voltage - Breakdown (Min): 13.3V; Part Number: SMA6J12A R3G; Applications: General Purpose; ComponentLink1Description: Datasheet; ComponentLink1URL: https://www.taiwansemi.com/products/datasheet/SMA6J%20SERIES_D15.pdf; ComponentLink2Description: DigiKey Link; ComponentLink2URL: http://digikey.com/product-detail/en/taiwan-semiconductor-corporation/SMA6J12A-R3G/SMA6J12AR3GCT-ND/7358709; LastUpdated: 9/2/2020 1:20:16 AM; Lifecycle Status: Active; Minimum Order: 1; Mounting Type: Surface Mount; Operating Temperature: -55°C ~ 175°C (TJ); Package / Case: DO-214AC, SMA; Packaging: TapeAndReel; PartId: 5921; Part Status: Active; Price: 0.12; Series: SMA6J; Supplier 1: DigiKey; Supplier Part Number 1: SMA6J12AR3GCT-ND; Supplier Device Package: DO-214AC (SMA); Voltage - Clamping (Max) @ Ipp: 18.8V; Voltage - Reverse Standoff (Typ): 12V
footprint DO214AC SMA
pins: 1, 2

## SMA6J12A-TP
designator D?
TVS DIODE 12V 19.9V DO214AC; Manufacturer: Micro Commercial Co; Current - Peak Pulse (10/1000µs): 30.2A; Power Line Protection: No; Power - Peak Pulse: 600W; Type: Zener; Unidirectional Channels: 1; Voltage - Breakdown (Min): 13.3V; Part Number: SMA6J12A-TP; Applications: General Purpose; ComponentLink1Description: Datasheet; ComponentLink1URL: https://www.mccsemi.com/pdf/Products/SMA6J5.0A~SMA6J33A(SMA).pdf; ComponentLink2Description: DigiKey Link; ComponentLink2URL: http://digikey.com/product-detail/en/micro-commercial-co/SMA6J12A-TP/SMA6J12A-TPMSCT-ND/2625092; LastUpdated: 9/2/2020 1:20:16 AM; Lifecycle Status: Active; Minimum Order: 1; Mounting Type: Surface Mount; Operating Temperature: -55°C ~ 175°C (TA); Package / Case: DO-214AC, SMA; Packaging: TapeAndReel; PartId: 5893; Part Status: Active; Price: 0.10; Series: -; Supplier 1: DigiKey; Supplier Part Number 1: SMA6J12A-TPMSCT-ND; Supplier Device Package: DO-214AC (SMA); Voltage - Clamping (Max) @ Ipp: 19.9V; Voltage - Reverse Standoff (Typ): 12V
footprint DO214AC SMA
pins: 1, 2

## SMA6J12A-TR
designator D?
TVS DIODE 12V 23.5V SMA; Manufacturer: STMicroelectronics; Current - Peak Pulse (10/1000µs): 157A (8/20µs); Power Line Protection: No; Power - Peak Pulse: 600W; Type: Zener; Unidirectional Channels: 1; Voltage - Breakdown (Min): 13.3V; Part Number: SMA6J12A-TR; Applications: General Purpose; ComponentLink1Description: Datasheet; ComponentLink1URL: http://www.st.com/content/ccc/resource/technical/document/datasheet/56/26/d7/6f/22/8c/4e/b3/CD00152688.pdf/files/CD00152688.pdf/_jcr_content/translations/en.CD00152688.pdf; ComponentLink2Description: DigiKey Link; ComponentLink2URL: http://digikey.com/product-detail/en/stmicroelectronics/SMA6J12A-TR/497-5917-1-ND/1578423; LastUpdated: 9/2/2020 1:20:18 AM; Lifecycle Status: Active; Minimum Order: 1; Mounting Type: Surface Mount; Operating Temperature: -55°C ~ 175°C (TJ); Package / Case: DO-214AC, SMA; Packaging: TapeAndReel; PartId: 6121; Part Status: Active; Price: 0.15; Series: SMA6J, TRANSIL™; Supplier 1: DigiKey; Supplier Part Number 1: 497-5917-1-ND; Supplier Device Package: SMA (DO-214AC); Voltage - Clamping (Max) @ Ipp: 23.5V; Voltage - Reverse Standoff (Typ): 12V
footprint DO214AC SMA
pins: 1, 2

## SMA6J12AHR3G
designator D?
TVS DIODE 12V 18.8V DO214AC; Manufacturer: Taiwan Semiconductor Corporation; Current - Peak Pulse (10/1000µs): 31.9A; Power Line Protection: No; Power - Peak Pulse: 600W; Type: Zener; Unidirectional Channels: 1; Voltage - Breakdown (Min): 13.3V; Part Number: SMA6J12AHR3G; Applications: Automotive; ComponentLink1Description: Datasheet; ComponentLink1URL: https://www.taiwansemi.com/products/datasheet/SMA6J%20SERIES_D15.pdf; ComponentLink2Description: DigiKey Link; ComponentLink2URL: http://digikey.com/product-detail/en/taiwan-semiconductor-corporation/SMA6J12AHR3G/SMA6J12AHR3GCT-ND/7358712; LastUpdated: 9/2/2020 1:20:15 AM; Lifecycle Status: Active; Minimum Order: 1; Mounting Type: Surface Mount; Operating Temperature: -55°C ~ 175°C (TJ); Package / Case: DO-214AC, SMA; Packaging: TapeAndReel; PartId: 5846; Part Status: Active; Price: 0.13; Series: Automotive, AEC-Q101, SMA6J; Supplier 1: DigiKey; Supplier Part Number 1: SMA6J12AHR3GCT-ND; Supplier Device Package: DO-214AC (SMA); Voltage - Clamping (Max) @ Ipp: 18.8V; Voltage - Reverse Standoff (Typ): 12V
footprint DO214AC SMA
pins: 1, 2

## SMA6J12CA-TP
designator D?
TVS DIODE 12V 19.9V DO214AC; Manufacturer: Micro Commercial Co; Bidirectional Channels: 1; Current - Peak Pulse (10/1000µs): 30.2A; Power Line Protection: No; Power - Peak Pulse: 600W; Type: Zener; Voltage - Breakdown (Min): 13.3V; Part Number: SMA6J12CA-TP; Applications: General Purpose; ComponentLink1Description: Datasheet; ComponentLink1URL: https://www.mccsemi.com/pdf/Products/SMA6J5.0A~SMA6J33A(SMA).pdf; ComponentLink2Description: DigiKey Link; ComponentLink2URL: http://digikey.com/product-detail/en/micro-commercial-co/SMA6J12CA-TP/SMA6J12CA-TPMSCT-ND/2625095; LastUpdated: 9/2/2020 1:27:52 AM; Lifecycle Status: Active; Minimum Order: 1; Mounting Type: Surface Mount; Operating Temperature: -55°C ~ 175°C (TA); Package / Case: DO-214AC, SMA; Packaging: TapeAndReel; PartId: 7529; Part Status: Active; Price: 0.10; Series: -; Supplier 1: DigiKey; Supplier Part Number 1: SMA6J12CA-TPMSCT-ND; Supplier Device Package: DO-214AC (SMA); Voltage - Clamping (Max) @ Ipp: 19.9V; Voltage - Reverse Standoff (Typ): 12V
footprint DO214AC SMA
pins: 1, 2

## SMA6J12CA-TR
designator D?
TVS DIODE 12V 23.5V SMA; Manufacturer: STMicroelectronics; Bidirectional Channels: 1; Current - Peak Pulse (10/1000µs): 157A (8/20µs); Power Line Protection: No; Power - Peak Pulse: 600W; Type: Zener; Voltage - Breakdown (Min): 13.3V; Part Number: SMA6J12CA-TR; Applications: General Purpose; ComponentLink1Description: Datasheet; ComponentLink1URL: http://www.st.com/content/ccc/resource/technical/document/datasheet/56/26/d7/6f/22/8c/4e/b3/CD00152688.pdf/files/CD00152688.pdf/_jcr_content/translations/en.CD00152688.pdf; ComponentLink2Description: DigiKey Link; ComponentLink2URL: http://digikey.com/product-detail/en/stmicroelectronics/SMA6J12CA-TR/497-5918-1-ND/1578424; LastUpdated: 9/2/2020 1:27:54 AM; Lifecycle Status: Active; Minimum Order: 1; Mounting Type: Surface Mount; Operating Temperature: -55°C ~ 175°C (TJ); Package / Case: DO-214AC, SMA; Packaging: TapeAndReel; PartId: 7758; Part Status: Active; Price: 0.17; Series: SMA6J, TRANSIL™; Supplier 1: DigiKey; Supplier Part Number 1: 497-5918-1-ND; Supplier Device Package: SMA (DO-214AC); Voltage - Clamping (Max) @ Ipp: 23.5V; Voltage - Reverse Standoff (Typ): 12V
footprint DO214AC SMA
pins: 1, 2

## SMA6J13A R3G
designator D?
TVS DIODE 13V 20.4V DO214AC; Manufacturer: Taiwan Semiconductor Corporation; Current - Peak Pulse (10/1000µs): 29.4A; Power Line Protection: No; Power - Peak Pulse: 600W; Type: Zener; Unidirectional Channels: 1; Voltage - Breakdown (Min): 14.4V; Part Number: SMA6J13A R3G; Applications: General Purpose; ComponentLink1Description: Datasheet; ComponentLink1URL: https://www.taiwansemi.com/products/datasheet/SMA6J%20SERIES_D15.pdf; ComponentLink2Description: DigiKey Link; ComponentLink2URL: http://digikey.com/product-detail/en/taiwan-semiconductor-corporation/SMA6J13A-R3G/SMA6J13AR3GCT-ND/7358715; LastUpdated: 9/2/2020 1:20:16 AM; Lifecycle Status: Active; Minimum Order: 1; Mounting Type: Surface Mount; Operating Temperature: -55°C ~ 175°C (TJ); Package / Case: DO-214AC, SMA; Packaging: TapeAndReel; PartId: 5920; Part Status: Active; Price: 0.12; Series: SMA6J; Supplier 1: DigiKey; Supplier Part Number 1: SMA6J13AR3GCT-ND; Supplier Device Package: DO-214AC (SMA); Voltage - Clamping (Max) @ Ipp: 20.4V; Voltage - Reverse Standoff (Typ): 13V
footprint DO214AC SMA
pins: 1, 2

## SMA6J13A-TP
designator D?
TVS DIODE 13V 21.5V DO214AC; Manufacturer: Micro Commercial Co; Current - Peak Pulse (10/1000µs): 27.9A; Power Line Protection: No; Power - Peak Pulse: 600W; Type: Zener; Unidirectional Channels: 1; Voltage - Breakdown (Min): 14.4V; Part Number: SMA6J13A-TP; Applications: General Purpose; ComponentLink1Description: Datasheet; ComponentLink1URL: https://www.mccsemi.com/pdf/Products/SMA6J5.0A~SMA6J33A(SMA).pdf; ComponentLink2Description: DigiKey Link; ComponentLink2URL: http://digikey.com/product-detail/en/micro-commercial-co/SMA6J13A-TP/SMA6J13A-TPMSCT-ND/2625096; LastUpdated: 9/2/2020 1:20:16 AM; Lifecycle Status: Active; Minimum Order: 1; Mounting Type: Surface Mount; Operating Temperature: -55°C ~ 175°C (TA); Package / Case: DO-214AC, SMA; Packaging: TapeAndReel; PartId: 5896; Part Status: Active; Price: 0.10; Series: -; Supplier 1: DigiKey; Supplier Part Number 1: SMA6J13A-TPMSCT-ND; Supplier Device Package: DO-214AC (SMA); Voltage - Clamping (Max) @ Ipp: 21.5V; Voltage - Reverse Standoff (Typ): 13V
footprint DO214AC SMA
pins: 1, 2

## SMA6J13A-TR
designator D?
TVS DIODE 13V 23.9V SMA; Manufacturer: STMicroelectronics; Current - Peak Pulse (10/1000µs): 147A (8/20µs); Power Line Protection: No; Power - Peak Pulse: 600W; Type: Zener; Unidirectional Channels: 1; Voltage - Breakdown (Min): 14.4V; Part Number: SMA6J13A-TR; Applications: General Purpose; ComponentLink1Description: Datasheet; ComponentLink1URL: http://www.st.com/content/ccc/resource/technical/document/datasheet/56/26/d7/6f/22/8c/4e/b3/CD00152688.pdf/files/CD00152688.pdf/_jcr_content/translations/en.CD00152688.pdf; ComponentLink2Description: DigiKey Link; ComponentLink2URL: http://digikey.com/product-detail/en/stmicroelectronics/SMA6J13A-TR/497-5919-1-ND/1578425; LastUpdated: 9/2/2020 1:20:13 AM; Lifecycle Status: Active; Minimum Order: 1; Mounting Type: Surface Mount; Operating Temperature: -55°C ~ 175°C (TJ); Package / Case: DO-214AC, SMA; Packaging: TapeAndReel; PartId: 5618; Part Status: Active; Price: 0.16; Series: SMA6J, TRANSIL™; Supplier 1: DigiKey; Supplier Part Number 1: 497-5919-1-ND; Supplier Device Package: SMA (DO-214AC); Voltage - Clamping (Max) @ Ipp: 23.9V; Voltage - Reverse Standoff (Typ): 13V
footprint DO214AC SMA
pins: 1, 2

## SMA6J13AHR3G
designator D?
TVS DIODE 13V 20.4V DO214AC; Manufacturer: Taiwan Semiconductor Corporation; Current - Peak Pulse (10/1000µs): 29.4A; Power Line Protection: No; Power - Peak Pulse: 600W; Type: Zener; Unidirectional Channels: 1; Voltage - Breakdown (Min): 14.4V; Part Number: SMA6J13AHR3G; Applications: Automotive; ComponentLink1Description: Datasheet; ComponentLink1URL: https://www.taiwansemi.com/products/datasheet/SMA6J%20SERIES_D15.pdf; ComponentLink2Description: DigiKey Link; ComponentLink2URL: http://digikey.com/product-detail/en/taiwan-semiconductor-corporation/SMA6J13AHR3G/SMA6J13AHR3GCT-ND/7358718; LastUpdated: 9/2/2020 1:20:15 AM; Lifecycle Status: Active; Minimum Order: 1; Mounting Type: Surface Mount; Operating Temperature: -55°C ~ 175°C (TJ); Package / Case: DO-214AC, SMA; Packaging: TapeAndReel; PartId: 5847; Part Status: Active; Price: 0.13; Series: Automotive, AEC-Q101, SMA6J; Supplier 1: DigiKey; Supplier Part Number 1: SMA6J13AHR3GCT-ND; Supplier Device Package: DO-214AC (SMA); Voltage - Clamping (Max) @ Ipp: 20.4V; Voltage - Reverse Standoff (Typ): 13V
footprint DO214AC SMA
pins: 1, 2

## SMA6J13CA-TP
designator D?
TVS DIODE 13V 21.5V DO214AC; Manufacturer: Micro Commercial Co; Bidirectional Channels: 1; Current - Peak Pulse (10/1000µs): 27.9A; Power Line Protection: No; Power - Peak Pulse: 600W; Type: Zener; Voltage - Breakdown (Min): 14.4V; Part Number: SMA6J13CA-TP; Applications: General Purpose; ComponentLink1Description: Datasheet; ComponentLink1URL: https://www.mccsemi.com/pdf/Products/SMA6J5.0A~SMA6J33A(SMA).pdf; ComponentLink2Description: DigiKey Link; ComponentLink2URL: http://digikey.com/product-detail/en/micro-commercial-co/SMA6J13CA-TP/SMA6J13CA-TPMSCT-ND/2625088; LastUpdated: 9/2/2020 1:27:53 AM; Lifecycle Status: Active; Minimum Order: 1; Mounting Type: Surface Mount; Operating Temperature: -55°C ~ 175°C (TA); Package / Case: DO-214AC, SMA; Packaging: TapeAndReel; PartId: 7552; Part Status: Active; Price: 0.10; Series: -; Supplier 1: DigiKey; Supplier Part Number 1: SMA6J13CA-TPMSCT-ND; Supplier Device Package: DO-214AC (SMA); Voltage - Clamping (Max) @ Ipp: 21.5V; Voltage - Reverse Standoff (Typ): 13V
footprint DO214AC SMA
pins: 1, 2

## SMA6J13CA-TR
designator D?
TVS DIODE 13V 23.9V SMA; Manufacturer: STMicroelectronics; Bidirectional Channels: 1; Current - Peak Pulse (10/1000µs): 147A (8/20µs); Power Line Protection: No; Power - Peak Pulse: 600W; Type: Zener; Voltage - Breakdown (Min): 14.4V; Part Number: SMA6J13CA-TR; Applications: General Purpose; ComponentLink1Description: Datasheet; ComponentLink1URL: http://www.st.com/content/ccc/resource/technical/document/datasheet/56/26/d7/6f/22/8c/4e/b3/CD00152688.pdf/files/CD00152688.pdf/_jcr_content/translations/en.CD00152688.pdf; ComponentLink2Description: DigiKey Link; ComponentLink2URL: http://digikey.com/product-detail/en/stmicroelectronics/SMA6J13CA-TR/497-5920-1-ND/1578426; LastUpdated: 9/2/2020 1:27:51 AM; Lifecycle Status: Active; Minimum Order: 1; Mounting Type: Surface Mount; Operating Temperature: -55°C ~ 175°C (TJ); Package / Case: DO-214AC, SMA; Packaging: TapeAndReel; PartId: 7388; Part Status: Active; Price: 0.17; Series: SMA6J, TRANSIL™; Supplier 1: DigiKey; Supplier Part Number 1: 497-5920-1-ND; Supplier Device Package: SMA (DO-214AC); Voltage - Clamping (Max) @ Ipp: 23.9V; Voltage - Reverse Standoff (Typ): 13V
footprint DO214AC SMA
pins: 1, 2

## SMA6J15A R3G
designator D?
TVS DIODE 15V 23.6V DO214AC; Manufacturer: Taiwan Semiconductor Corporation; Current - Peak Pulse (10/1000µs): 25.4A; Power Line Protection: No; Power - Peak Pulse: 600W; Type: Zener; Unidirectional Channels: 1; Voltage - Breakdown (Min): 16.7V; Part Number: SMA6J15A R3G; Applications: General Purpose; ComponentLink1Description: Datasheet; ComponentLink1URL: https://www.taiwansemi.com/products/datasheet/SMA6J%20SERIES_D15.pdf; ComponentLink2Description: DigiKey Link; ComponentLink2URL: http://digikey.com/product-detail/en/taiwan-semiconductor-corporation/SMA6J15A-R3G/SMA6J15AR3GCT-ND/7358721; LastUpdated: 9/2/2020 1:20:13 AM; Lifecycle Status: Active; Minimum Order: 1; Mounting Type: Surface Mount; Operating Temperature: -55°C ~ 175°C (TJ); Package / Case: DO-214AC, SMA; Packaging: TapeAndReel; PartId: 5585; Part Status: Active; Price: 0.12; Series: SMA6J; Supplier 1: DigiKey; Supplier Part Number 1: SMA6J15AR3GCT-ND; Supplier Device Package: DO-214AC (SMA); Voltage - Clamping (Max) @ Ipp: 23.6V; Voltage - Reverse Standoff (Typ): 15V
footprint DO214AC SMA
pins: 1, 2

## SMA6J15A-TP
designator D?
TVS DIODE 15V 24.4V DO214AC; Manufacturer: Micro Commercial Co; Current - Peak Pulse (10/1000µs): 24.6A; Power Line Protection: No; Power - Peak Pulse: 600W; Type: Zener; Unidirectional Channels: 1; Voltage - Breakdown (Min): 16.7V; Part Number: SMA6J15A-TP; Applications: General Purpose; ComponentLink1Description: Datasheet; ComponentLink1URL: https://www.mccsemi.com/pdf/Products/SMA6J5.0A~SMA6J33A(SMA).pdf; ComponentLink2Description: DigiKey Link; ComponentLink2URL: http://digikey.com/product-detail/en/micro-commercial-co/SMA6J15A-TP/SMA6J15A-TPMSCT-ND/2625097; LastUpdated: 9/2/2020 1:20:13 AM; Lifecycle Status: Active; Minimum Order: 1; Mounting Type: Surface Mount; Operating Temperature: -55°C ~ 175°C (TA); Package / Case: DO-214AC, SMA; Packaging: TapeAndReel; PartId: 5576; Part Status: Active; Price: 0.10; Series: -; Supplier 1: DigiKey; Supplier Part Number 1: SMA6J15A-TPMSCT-ND; Supplier Device Package: DO-214AC (SMA); Voltage - Clamping (Max) @ Ipp: 24.4V; Voltage - Reverse Standoff (Typ): 15V
footprint DO214AC SMA
pins: 1, 2